# EAGLE library part LED1642GW (library LED1642GW)
The LED1642GW is a monolithic, low voltage, low current power 16-bit shift register designed for LED panel displays. The LED1642GW guarantees 20 V output driving capability allowing the user to connect several LEDs in series. In the output stage, sixteen regulated current sources provide from 3 mA to 40 mA constant current to drive the LEDs. The current is programmed through an external resistor and can be adjusted by a 7-bit current gain register in two subranges. The brightness can be adjusted separately for each channel through 12/16-bit grayscale control
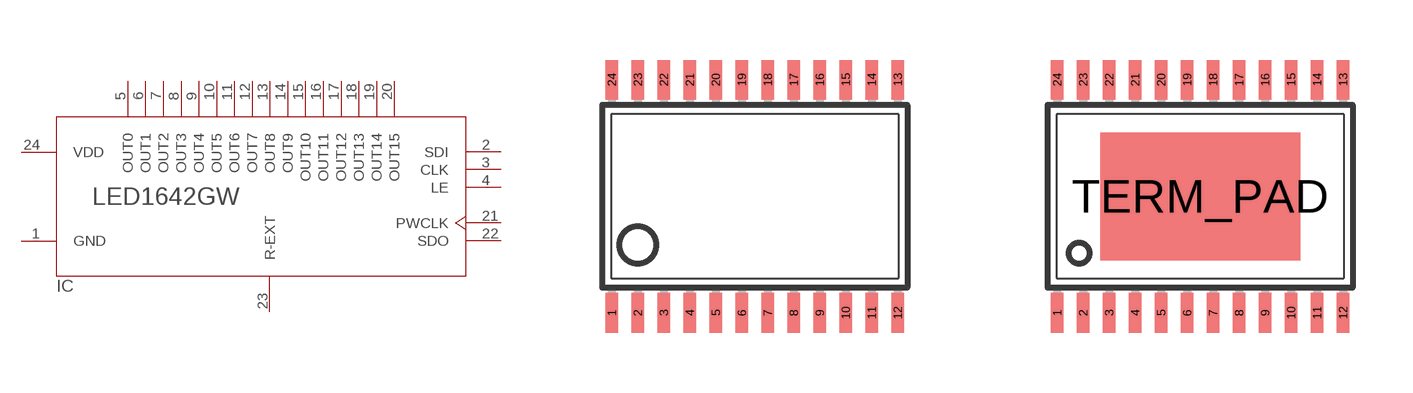
[diagram p0: symbol with the pads of TSSOP24; footprints TSSOP24, TSSOP24EP]

Designator prefix IC

## LED1642GWT  [TSSOP24]
1  GND  pwr
2  SDI  in
3  CLK  in
4  LE  in
5  OUT0  out
6  OUT1  out
7  OUT2  out
8  OUT3  out
9  OUT4  out
10  OUT5  out
11  OUT6  out
12  OUT7  out
13  OUT8  out
14  OUT9  out
15  OUT10  out
16  OUT11  out
17  OUT12  out
18  OUT13  out
19  OUT14  out
20  OUT15  out
21  PWCLK  in
22  SDO  out
23  R-EXT  out
24  VDD  pwr

## LED1642GWXT  [TSSOP24EP]
Pads as for TSSOP24

## Footprint TSSOP24 (pad centres in mm)
Thin Shrink Small Outline Plastic 24
smd 0.305 x 0.991: 1 -3.575,-2.918; 2 -2.925,-2.918; 3 -2.275,-2.918; 4 -1.625,-2.918; 5 -0.975,-2.918; 6 -0.325,-2.918; 7 0.325,-2.918; 8 0.975,-2.918; 9 1.625,-2.918; 10 2.275,-2.918; 11 2.925,-2.918; 12 3.575,-2.918; 13 3.575,2.918; 14 2.925,2.918; 15 2.275,2.918; 16 1.625,2.918; 17 0.975,2.918; 18 0.325,2.918; 19 -0.325,2.918; 20 -0.975,2.918; 21 -1.625,2.918; 22 -2.275,2.918; 23 -2.925,2.918; 24 -3.575,2.918

## Footprint TSSOP24EP (pad centres in mm)
Thin Shrink Small Outline Plastic 24 with exposed pad
smd 0.305 x 0.991: 1 -3.575,-2.918; 2 -2.925,-2.918; 3 -2.275,-2.918; 4 -1.625,-2.918; 5 -0.975,-2.918; 6 -0.325,-2.918; 7 0.325,-2.918; 8 0.975,-2.918; 9 1.625,-2.918; 10 2.275,-2.918; 11 2.925,-2.918; 12 3.575,-2.918; 13 3.575,2.918; 14 2.925,2.918; 15 2.275,2.918; 16 1.625,2.918; 17 0.975,2.918; 18 0.325,2.918; 19 -0.325,2.918; 20 -0.975,2.918; 21 -1.625,2.918; 22 -2.275,2.918; 23 -2.925,2.918; 24 -3.575,2.918
smd 5 x 3.2: TERM_PAD 0,0